# Altium footprint library crystals_oscillators.pcblib: 11 footprints
Each footprint in its own frame and in the unit in brackets; x right, y up, seen from the top. Pads: shape width x height; smd on the part's side, far side on the other; paste and mask are expansions set on the pad; w line width, h text height; cw(c..) or ccw(c..) is an arc to the next point about the centre after c.
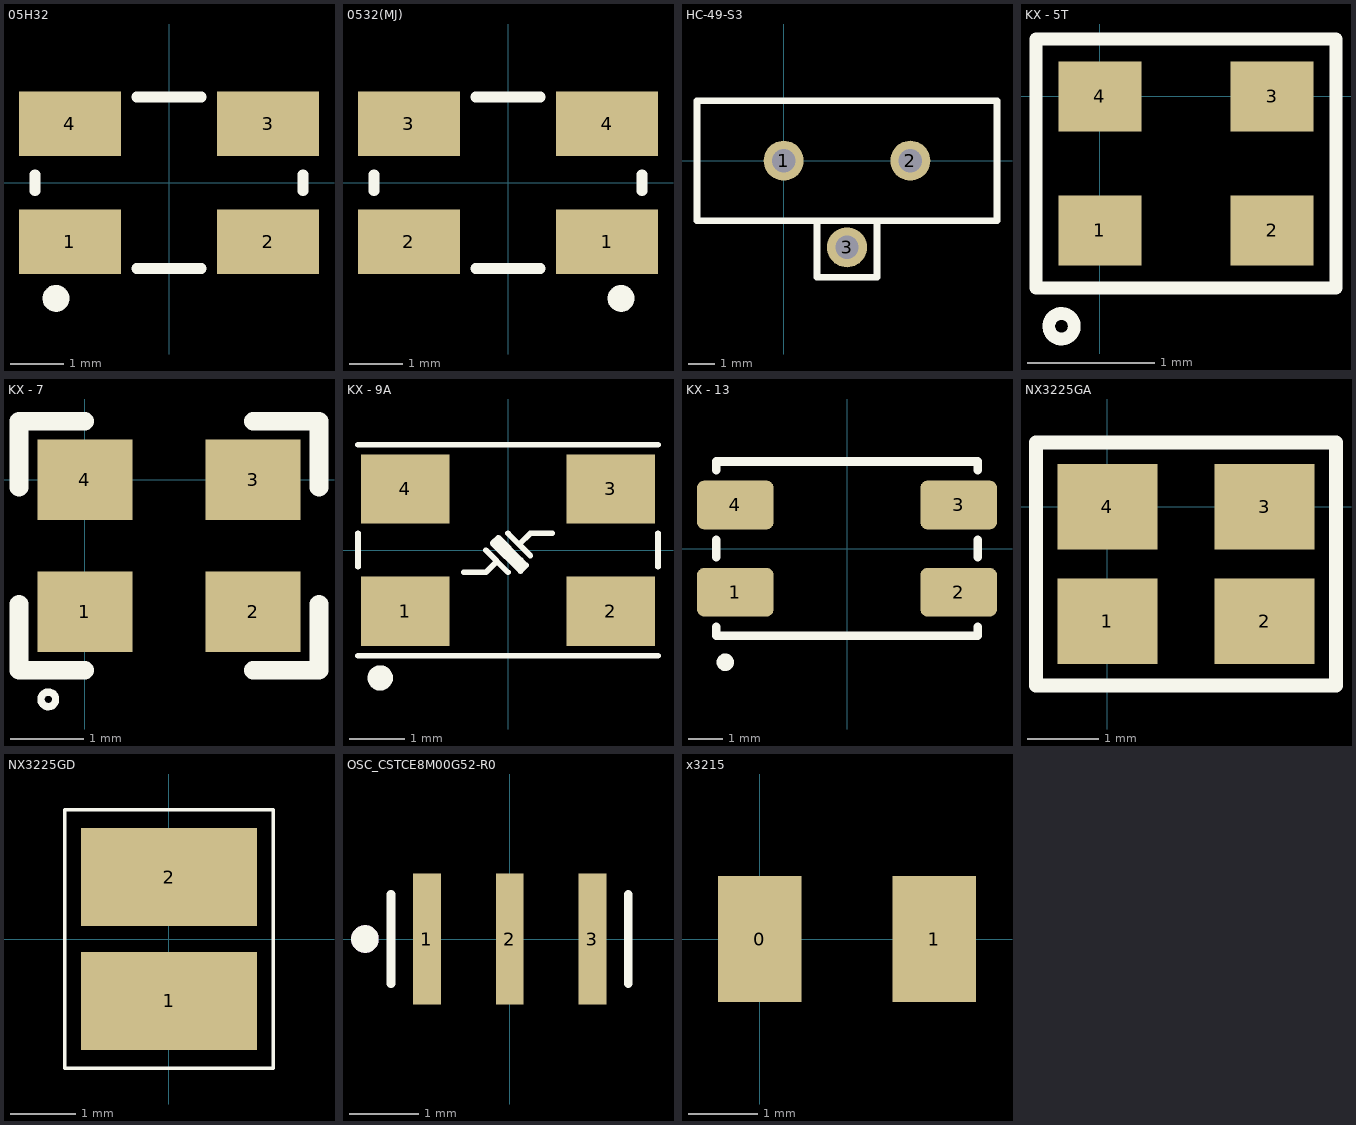
[diagram p0: the footprints below, top view; thin cyan lines are the x and y axes]

## 05H32 [mm] "Surface Mount Quartz Generator; Body 5.0 x 3.2 mm (LxW)"
height 1
pads (4):
  rect 1.9x1.2 smd: 1(-1.85,-1.1) 2(1.85,-1.1) 3(1.85,1.1) 4(-1.85,1.1)
Top Overlay:
  circle w0.25: c-2.11,-2.159 r0.125
  lines w0.2: -2.5,-0.15 -2.5,0.15 ; -0.6,-1.6 0.6,-1.6 ; -0.6,1.6 0.6,1.6 ; 2.5,-0.15 2.5,0.15
3D body "H53-5x3_2.step": height 1.22, standoff 0, extent -2.5,-1.6 2.5,1.6

## 0532(MJ) [mm] "Surface Mount Quartz Crystal; Body 5.0 x 3.2 mm (LxW)"
height 1
pads (4):
  rect 1.9x1.2 smd: 1(1.85,-1.1) 2(-1.85,-1.1) 3(-1.85,1.1) 4(1.85,1.1)
Top Overlay:
  circle w0.25: c2.11,-2.159 r0.125
  lines w0.2: -2.5,-0.15 -2.5,0.15 ; -0.6,-1.6 0.6,-1.6 ; -0.6,1.6 0.6,1.6 ; 2.5,-0.15 2.5,0.15
3D body "H53-5x3_2.step": height 1.22, standoff 0, extent -2.5,-1.6 2.5,1.6

## HC-49-S3 [mil]
pads (3):
  round 60 hole 35: 1(0,0) 2(190,0) 3(95,-130)
Top Overlay:
  lines w10: 50,-90 50,-175 140,-175 140,-90 ; -130,-90 320,-90 320,90 -130,90 -130,-90
3D body "User Library-XTAL2.step": height 121.8, standoff -100, extent -114.52,-59.96 305.48,60.04

## KX - 5T [mm] "Quartz"
pads (4):
  rect 0.65x0.55 smd: 1(0,-1.05) 2(1.35,-1.05) 3(1.35,0) 4(0,0)
Top Overlay:
  circle w0.1: c-0.3,-1.8 r0.1
  lines w0.1: -0.5,-1.5 -0.5,0.45 1.85,0.45 1.85,-1.5 -0.5,-1.5
3D body "User Library-GeyerElectronics_KX5.step": height 0.56, standoff 0, extent -0.375,-1.375 1.725,0.325

## KX - 7 [mm] "Quartz"
pads (4):
  rect 1.3x1.1 smd: 1(0,-1.8) 2(2.3,-1.8) 3(2.3,0) 4(0,0)
Top Overlay:
  circle w0.1: c-0.5,-3 r0.1
  lines w0.254: -0.9,-1.7 -0.9,-2.6 0,-2.6 ; -0.9,-0.1 -0.9,0.8 0,0.8 ; 2.3,-2.6 3.2,-2.6 3.2,-1.7 ; 2.3,0.8 3.2,0.8 3.2,-0.1
3D body "User Library-GeyerElectronics_KX7.step": height 0.81, standoff 0, extent -0.457,-2.15 2.757,0.35

## KX - 9A [mm] "Quartz"
pads (4):
  rect 1.6x1.25 smd: 1(-1.85,-1.1) 2(1.85,-1.1) 3(1.85,1.1) 4(-1.85,1.1)
Top Overlay:
  circle w0.254: c-2.3,-2.3 r0.1
  lines w0.1: -2.7,-1.9 2.7,-1.9 ; -2.7,-0.3 -2.7,0.3 ; -2.7,1.9 2.7,1.9 ; -0.8,-0.4 -0.4,-0.4 -0.2,-0.2 ; -0.4,0 0,-0.4 ; -0.175,0.124 0.225,-0.276 ; 0.4,-0.1 0,0.3 0.2,0.1 0.4,0.3 0.8,0.3 ; 2.7,-0.3 2.7,0.3 ; -0.275,0.124 -0.175,0.224 0.225,-0.176 0.325,-0.276 0.225,-0.376 -0.275,0.124
3D body "User Library-GeyerElectronics_KX9A.step": height 1.01, standoff 0, extent -2.5,-1.6 2.5,1.6

## KX - 13 [mm]
pads (4):
  rrect30% 2.2x1.4 smd: 1(-3.2,-1.25) 2(3.2,-1.25) 3(3.2,1.25) 4(-3.2,1.25)
Top Overlay:
  circle w0.25: c-3.49,-3.259 r0.125
  lines w0.254: -3.75,-2.25 -3.75,-2.5 -3.031,-2.5 -2.594,-2.5 -1.625,-2.5 1.625,-2.5 2.594,-2.5 3.031,-2.5 3.75,-2.5 3.75,-2.25 ; -3.75,-0.25 -3.75,0.25 ; -3.75,2.25 -3.75,2.5 3.75,2.5 3.75,2.25 ; 3.75,-0.25 3.75,0.25

## NX3225GA [mm]
pads (4):
  rect 1.4x1.2 smd: 1(0,-1.6) 2(2.2,-1.6) 3(2.2,0) 4(0,0)
Top Overlay:
  lines w0.2: -1,-2.5 3.2,-2.5 3.2,0.9 -1,0.9 -1,-2.5
3D body "User Library-X3225xxMLB4SI.step": height 0.69, standoff -0.01, extent -0.49,-2.05 2.69,0.45

## NX3225GD [mm]
pads (2):
  rect 2.7x1.5 smd: 1(0,-0.95) 2(0,0.95)
Top Overlay:
  lines w0.051: -1.6,-1.981 1.6,-1.981 1.6,1.981 -1.6,1.981 -1.6,-1.981
3D body: height 1, standoff 0, extent -1.25,-1.6 1.25,1.6

## OSC_CSTCE8M00G52-R0 [mm]
height 0.508
pads (3):
  rect 0.4x1.9 smd: 1(-1.2,0) 2(0,0) 3(1.2,0)
Top Overlay:
  circle w0.2: c-2.1,0 r0.1
  lines w0.127: -1.72,-0.65 -1.72,0.65 ; 1.72,-0.65 1.72,0.65
Plata3D:
  circle w0.2: c-2.1,0 r0.1
3D body "step_temp.STEP": height 0.8, standoff 0, extent -1.6,-0.65 1.6,0.65

## x3215 [mm] "crystal oscillator 32kHz"
pads (2):
  rect 1.2x1.8 smd: 0(0,0) 1(2.5,0)
3D body "x3215.STEP": height 0.91, standoff 0, extent -0.41,-0.76 2.81,0.76